# Altium footprint library TSOP48.PcbLib: 1 footprints
Each footprint in its own frame and in the unit in brackets; x right, y up, seen from the top. Pads: shape width x height; smd on the part's side, far side on the other; paste and mask are expansions set on the pad; w line width, h text height; cw(c..) or ccw(c..) is an arc to the next point about the centre after c.
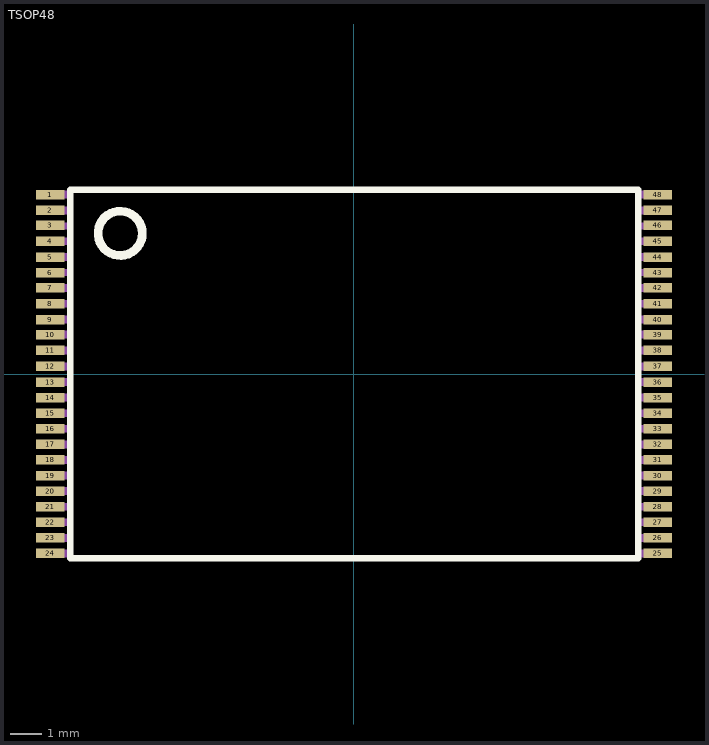
[diagram p0: the footprint, top view; thin cyan lines are the x and y axes]

## TSOP48 [mil]
pads (48):
  rect 36x12 smd: 1(-383.86,227) 2(-383.86,207) 3(-383.86,188) 4(-383.86,168) 5(-383.86,148) 6(-383.86,128) 7(-383.86,109) 8(-383.86,89) 9(-383.86,69) 10(-383.86,50) 11(-383.86,30) 12(-383.86,10) 13(-383.86,-9.84) 14(-383.86,-29.53) 15(-383.86,-49.21) 16(-383.86,-68.9) 17(-383.86,-88.58) 18(-383.86,-108.27) 19(-383.86,-127.95) 20(-383.86,-147.64) 21(-383.86,-167.32) 22(-383.86,-187.01) 23(-383.86,-206.69) 24(-383.86,-226.38) 25(384,-226.38) 26(384,-206.69) 27(384,-187.01) 28(384,-167.32) 29(384,-147.64) 30(384,-127.95) 31(384,-108.27) 32(384,-88.58) 33(384,-68.9) 34(384,-49.21) 35(384,-29.53) 36(384,-9.84) 37(384,10) 38(384,30) 39(384,50) 40(384,69) 41(384,89) 42(384,109) 43(384,128) 44(384,148) 45(384,168) 46(384,188) 47(384,207) 48(384,227)
Top Overlay:
  circle w11: c-295.28,178 r28
  lines w8: -358.27,-232.28 359,-232.28 359,233 -358.27,233 -358.27,-232.28
Mechanical 16:
  rectangle: -393.7,222 -361.22,232
  rectangle: -393.7,202 -361.22,212
  rectangle: -393.7,183 -361.22,192
  rectangle: -393.7,163 -361.22,173
  rectangle: -393.7,143 -361.22,153
  rectangle: -393.7,124 -361.22,133
  rectangle: -393.7,104 -361.22,114
  rectangle: -393.7,84 -361.22,94
  rectangle: -393.7,64 -361.22,74
  rectangle: -393.7,45 -361.22,55
  rectangle: -393.7,25 -361.22,35
  rectangle: -393.7,5 -361.22,15
  rectangle: -393.7,-14.76 -361.22,-4.92
  rectangle: -393.7,-34.45 -361.22,-24.61
  rectangle: -393.7,-54.13 -361.22,-44.29
  rectangle: -393.7,-73.82 -361.22,-63.98
  rectangle: -393.7,-93.5 -361.22,-83.66
  rectangle: -393.7,-113.19 -361.22,-103.35
  rectangle: -393.7,-132.87 -361.22,-123.03
  rectangle: -393.7,-152.56 -361.22,-142.72
  rectangle: -393.7,-172.24 -361.22,-162.4
  rectangle: -393.7,-191.93 -361.22,-182.09
  rectangle: -393.7,-211.61 -361.22,-201.77
  rectangle: -393.7,-231.3 -361.22,-221.46
  region: 394,-221.46 362,-221.46 362,-231.3 394,-231.3
  region: 394,-201.77 362,-201.77 362,-211.61 394,-211.61
  region: 394,-182.09 362,-182.09 362,-191.93 394,-191.93
  region: 394,-162.4 362,-162.4 362,-172.24 394,-172.24
  region: 394,-142.72 362,-142.72 362,-152.56 394,-152.56
  region: 394,-123.03 362,-123.03 362,-132.87 394,-132.87
  region: 394,-103.35 362,-103.35 362,-113.19 394,-113.19
  region: 394,-83.66 362,-83.66 362,-93.5 394,-93.5
  region: 394,-63.98 362,-63.98 362,-73.82 394,-73.82
  region: 394,-44.29 362,-44.29 362,-54.13 394,-54.13
  region: 394,-24.61 362,-24.61 362,-34.45 394,-34.45
  region: 394,-4.92 362,-4.92 362,-14.76 394,-14.76
  region: 394,15 362,15 362,5 394,5
  region: 394,35 362,35 362,25 394,25
  region: 394,55 362,55 362,45 394,45
  region: 394,74 362,74 362,64 394,64
  region: 394,94 362,94 362,84 394,84
  region: 394,114 362,114 362,104 394,104
  region: 394,133 362,133 362,124 394,124
  region: 394,153 362,153 362,143 394,143
  region: 394,173 362,173 362,163 394,163
  region: 394,192 362,192 362,183 394,183
  region: 394,212 362,212 362,202 394,202
  region: 394,232 362,232 362,222 394,222